# Altium footprint library EE10.PcbLib: 1 footprints
Each footprint in its own frame and in the unit in brackets; x right, y up, seen from the top. Pads: shape width x height; smd on the part's side, far side on the other; paste and mask are expansions set on the pad; w line width, h text height; cw(c..) or ccw(c..) is an arc to the next point about the centre after c.
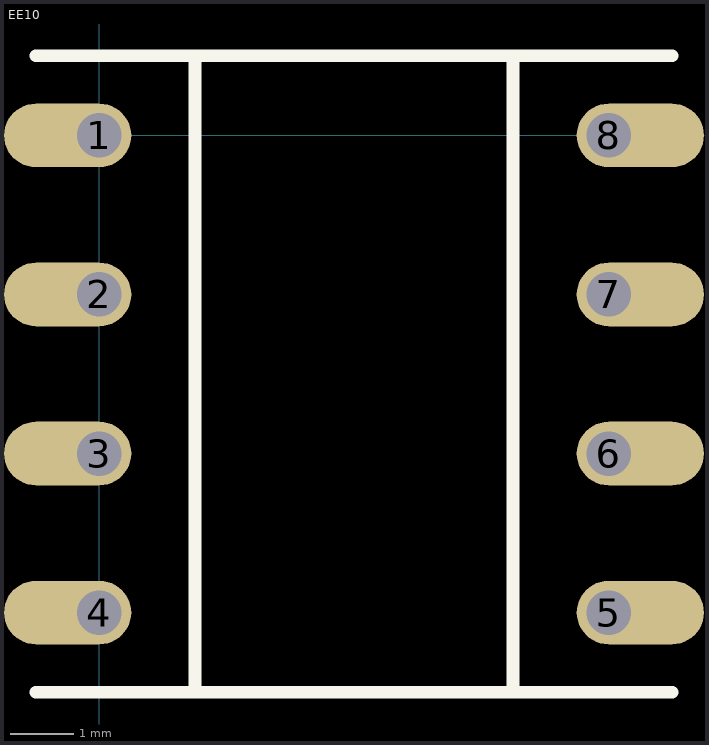
[diagram p0: the footprint, top view; thin cyan lines are the x and y axes]

## EE10 [mm]
pads (8):
  oval 2x1 hole 0.7 copper offset -0.5,0: 1(0,0) 2(0,-2.5) 3(0,-5) 4(0,-7.5)
  oval 2x1 hole 0.7 copper offset 0.5,0: 5(8,-7.5) 6(8,-5) 7(8,-2.5) 8(8,0)
Top Overlay:
  lines w0.2: -1,-8.75 9,-8.75 ; -1,1.25 9,1.25 ; 1.5,-8.75 1.5,1.25 ; 6.5,-8.75 6.5,1.25
3D body: height 10, standoff 0, extent -1,-8.75 9,1.25
3D body: height 11, standoff 0, extent 1.5,-9 6.5,1.5